# Altium schematic symbol library MCP73831.SchLib: 1 symbol
Pins are listed as number, name and electrical type; pins without a type are passive.

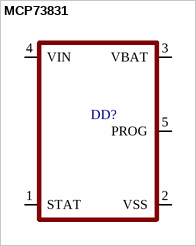
[diagram p0: symbol MCP73831]

## MCP73831
designator DD?
pins: 1 STAT, 2 VSS, 3 VBAT, 4 VIN, 5 PROG